# EAGLE library part IC3 (library CAN_BUS_Interface_v2)
MICROCONTROLLER
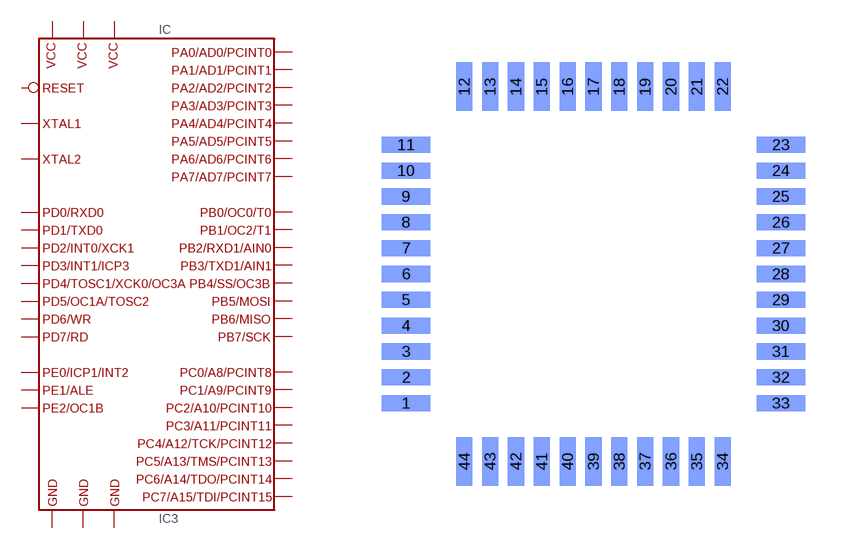
[diagram p3: symbol with the pads of IC3; footprint IC3]

Designator prefix IC

## IC3  [IC3]
1  PB5/MOSI  pas
2  PB6/MISO  pas
3  PB7/SCK  pas
4  RESET  pas
5  PD0/RXD0  pas
6  VCC  pwr
7  PD1/TXD0  pas
8  PD2/INT0/XCK1  pas
9  PD3/INT1/ICP3  pas
10  PD4/TOSC1/XCK0/OC3A  pas
11  PD5/OC1A/TOSC2  pas
12  PD6/WR  pas
13  PD7/RD  pas
14  XTAL2  pas
15  XTAL1  pas
16  GND  out
17  VCC  pwr
18  PC0/A8/PCINT8  pas
19  PC1/A9/PCINT9  pas
20  PC2/A10/PCINT10  pas
21  PC3/A11/PCINT11  pas
22  PC4/A12/TCK/PCINT12  pas
23  PC5/A13/TMS/PCINT13  pas
24  PC6/A14/TDO/PCINT14  pas
25  PC7/A15/TDI/PCINT15  pas
26  PE2/OC1B  pas
27  PE1/ALE  pas
28  GND  out
29  PE0/ICP1/INT2  pas
30  PA7/AD7/PCINT7  pas
31  PA6/AD6/PCINT6  pas
32  PA5/AD5/PCINT5  pas
33  PA4/AD4/PCINT4  pas
34  PA3/AD3/PCINT3  pas
35  PA2/AD2/PCINT2  pas
36  PA1/AD1/PCINT1  pas
37  PA0/AD0/PCINT0  pas
38  VCC  pwr
39  GND  out
40  PB0/OC0/T0  pas
41  PB1/OC2/T1  pas
42  PB2/RXD1/AIN0  pas
43  PB3/TXD1/AIN1  pas
44  PB4/SS/OC3B  pas

## Footprint IC3 (pad centres in mm)
TQFP44
smd 1.5 x 0.5 bottom: 1 -5.8,-4; 2 -5.8,-3.2; 3 -5.8,-2.4; 4 -5.8,-1.6; 5 -5.8,-0.8; 6 -5.8,0; 7 -5.8,0.8; 8 -5.8,1.6; 9 -5.8,2.4; 10 -5.8,3.2; 11 -5.8,4; 23 5.8,4; 24 5.8,3.2; 25 5.8,2.4; 26 5.8,1.6; 27 5.8,0.8; 28 5.8,0; 29 5.8,-0.8; 30 5.8,-1.6; 31 5.8,-2.4; 32 5.8,-3.2; 33 5.8,-4
smd 0.5 x 1.5 bottom: 12 -4,5.8; 13 -3.2,5.8; 14 -2.4,5.8; 15 -1.6,5.8; 16 -0.8,5.8; 17 0,5.8; 18 0.8,5.8; 19 1.6,5.8; 20 2.4,5.8; 21 3.2,5.8; 22 4,5.8; 34 4,-5.8; 35 3.2,-5.8; 36 2.4,-5.8; 37 1.6,-5.8; 38 0.8,-5.8; 39 0,-5.8; 40 -0.8,-5.8; 41 -1.6,-5.8; 42 -2.4,-5.8; 43 -3.2,-5.8; 44 -4,-5.8